# Altium footprint library SG5032CCN_16.000000M-HJGA3.PcbLib: 1 footprints
Each footprint in its own frame and in the unit in brackets; x right, y up, seen from the top. Pads: shape width x height; smd on the part's side, far side on the other; paste and mask are expansions set on the pad; w line width, h text height; cw(c..) or ccw(c..) is an arc to the next point about the centre after c.
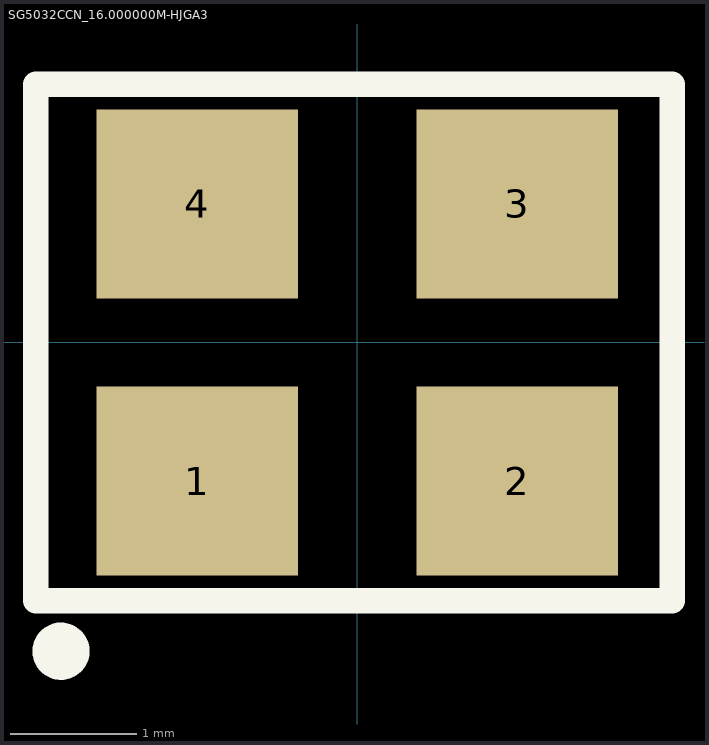
[diagram p0: the footprint, top view; thin cyan lines are the x and y axes]

## SG5032CCN_16.000000M-HJGA3 [mm]
pads (4):
  rect 1.6x1.5 smd: 1(-1.27,-1.1) 2(1.27,-1.1) 3(1.27,1.1) 4(-1.27,1.1)
Top Overlay:
  circle w0.254: c-2.35,-2.45 r0.1
  lines w0.2: -2.55,-2.05 2.5,-2.05 2.5,2.05 -2.55,2.05 -2.55,-2.05
3D body: height 1.1, standoff 0, extent -2.5,-1.6 2.5,1.6